# Altium schematic symbol library MS IMP Library.SchLib: 375 symbols (part 1 of 9)
Pins are listed as number, name and electrical type; pins without a type are passive.

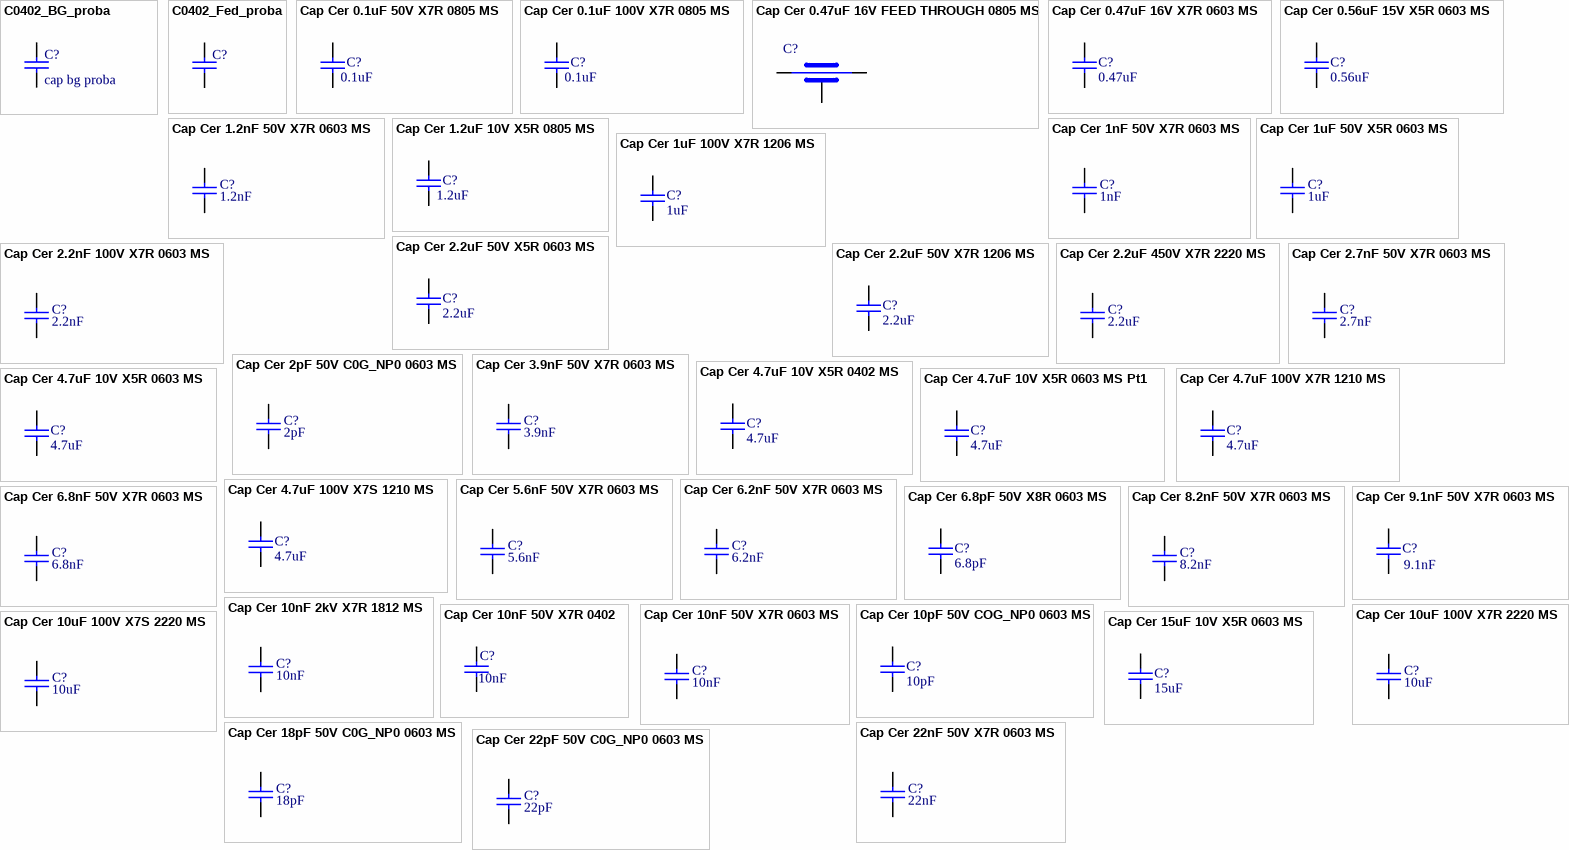
[diagram p0: symbols C0402_BG_proba to Cap Cer 22pF 50V C0G_NP0 0603 MS]

## C0402_BG_proba
designator C?, comment cap bg proba
footprint C0402_BG_proba
pins: 1, 2

## C0402_Fed_proba
designator C?, comment cap fed proba  (value not drawn)
footprint C0402_Fed_proba
pins: 1, 2

## Cap Cer 0.1uF 50V X7R 0805 MS
designator C?, comment Capacitance: 0.1uF  (hidden comment: Ceramic Capacitor)
Ceramic Capacitor 0.1uF 50V X7R 0805; Manufacturer: Yageo; Manufacturer Part Number: CC0805MRX7R9BB104; Tolerance: ±20%; Production Status: Active; Distributor: Digi-Key; Distributor Part Number: 311-4351-1-ND; Last Revision Date: 11.07.2021; Temperature Range: -55°C ~ +125°C; Mounting: SMD; ComponentLink1Description: Datasheet; ComponentLink1URL: https://www.yageo.com/upload/media/product/productsearch/datasheet/mlcc/UPY-GPHC_X7R_6.3V-to-50V_20.pdf; ComponentLink2Description: Distributor; ComponentLink2URL: https://www.digikey.com/en/products/detail/yageo/CC0805MRX7R9BB104/5884281; ComponentLink3Description: Manufacturer; ComponentLink3URL: https://www.yageo.com/en/ProductSearch/PartNumberSearch?part_number=CC0805MRX7R9BB104; Status: Not Checked; Voltage: 50V; Dielectric: X7R; ComponentLink4Description: Charts; ComponentLink4URL: https://www.yageo.com/en/Chart/Index/CC0805MRX7R9BB104; DB Parameter 1: 0.1uF; DB Parameter 2: 50V; DB Parameter 3: X7R
footprint 0805 C 1.27mm MS (Capacitor 0805 1.27mm)
pins: 1, 2

## Cap Cer 0.1uF 100V X7R 0805 MS
designator C?, comment Capacitance: 0.1uF  (hidden comment: Ceramic Capacitor)
Ceramic Capacitor 0.1uF 100V X7R 0805; Manufacturer: TDK; Manufacturer Part Number: C2012X7R2A104K125AA; Tolerance: ±10%; Production Status: Active; Distributor: Mouser; Distributor Part Number: 810-C2012X7R2A104K; Last Revision Date: 06.12.2021; Temperature Range: -55°C ~ +125°C; Mounting: SMD; ComponentLink1Description: Datasheet; ComponentLink1URL: https://product.tdk.com/system/files/dam/doc/product/capacitor/ceramic/mlcc/catalog/mlcc_commercial_midvoltage_en.pdf; ComponentLink2Description: Distributor; ComponentLink2URL: https://eu.mouser.com/ProductDetail/TDK/C2012X7R2A104K125AA?qs=NRhsANhppD9J0ZsT2%2Fo%2F7Q%3D%3D; ComponentLink3Description: Manufacturer; ComponentLink3URL: https://product.tdk.com/en/search/list#part_no=C2012X7R2A104K125AA&_l=20&_p=1&_c=part_no-part_no&_d=0; Status: Not Checked; Voltage: 100V; Dielectric: X7R; ComponentLink4Description: Charts; ComponentLink4URL: https://product.tdk.com/system/files/dam/doc/product/capacitor/ceramic/mlcc/charasheet/c2012x7r2a104k125aa.pdf; DB Parameter 1: 0.1uF; DB Parameter 2: 100V; DB Parameter 3: X7R
footprint 0805 C 1.27mm MS (Capacitor 0805 1.27mm)
pins: 1, 2

## Cap Cer 0.47uF 16V FEED THROUGH 0805 MS
designator C?, comment Ceramic Capacitor  (value not drawn)
CAP FEEDTHRU 0.47UF 20% 16V 2A 0805; Manufacturer: Murata Electronics; Manufacturer Part Number: NFM21PC474R1C3D; DB Parameter 1: 0.1uF; Production Status: Active; Distributor: Digi-Key; Distributor Part Number: 490-2537-1-ND; Last Revision Date: 12.07.2021; Temperature Range: -55°C ~ +125°C; Mounting: SMD; ComponentLink1Description: Datasheet; ComponentLink1URL: https://www.murata.com/en-global/products/productdetail?partno=NFM21PC474R1C3%23; ComponentLink2Description: Distributor; ComponentLink2URL: https://www.digikey.com/en/products/detail/murata-electronics/NFM21PC474R1C3D/599929; ComponentLink3Description: Manufacturer; ComponentLink3URL: https://www.murata.com/en-global/products/productdetail?partno=NFM21PC474R1C3%23; Status: Not Checked; Voltage: 16V; Tolerance: ±20%; Rated Current: 2A; ComponentLink4Description: Charts; ComponentLink4URL: https://www.murata.com/en-global/products/productdetail?partno=NFM21PC474R1C3%23; DB Parameter 2: 16V; DB Parameter 3: 2A
footprint NFM21PC
pins: 1, 2, 3 GND (power)

## Cap Cer 0.47uF 16V X7R 0603 MS
designator C?, comment DB Parameter 1: 0.47uF  (hidden comment: Ceramic Capacitor)
Ceramic Capacitor 0.47uF 16V X7R 0603; Manufacturer: TDK Corporation; Manufacturer Part Number: C1608X7R1C474K080AC; Tolerance: ±10%; Production Status: Active; Distributor: Digi-Key; Distributor Part Number: 445-5192-1-ND; Last Revision Date: 14.09.2021; Temperature Range: -55°C ~ +125°C; Mounting: SMD; ComponentLink1Description: Datasheet; ComponentLink1URL: https://product.tdk.com/en/search/capacitor/ceramic/mlcc/info?part_no=C1608X7R1C474K080AC; ComponentLink2Description: Distributor; ComponentLink2URL: https://www.digikey.com/en/products/detail/tdk-corporation/C1608X7R1C474K080AC/699790; ComponentLink3Description: Manufacturer; ComponentLink3URL: https://product.tdk.com/en/search/capacitor/ceramic/mlcc/info?part_no=C1608X7R1C474K080AC; Status: Not Checked; Voltage: 16V; Dielectric: X7R; ComponentLink4Description: Charts; ComponentLink4URL: https://product.tdk.com/en/search/capacitor/ceramic/mlcc/info?part_no=C1608X7R1C474K080AC; Capacitance: 0.47uF; DB Parameter 2: 16V; DB Parameter 3: X7R
footprint C0603L 0.8 MM MS (Chip Capacitor, Body 1.6x0.8mm, IPC High Density)
pins: 1, 2

## Cap Cer 0.56uF 15V X5R 0603 MS
designator C?, comment DB Parameter 1: 0.56uF  (hidden comment: Ceramic Capacitor)
Ceramic Capacitor 0.56uF 16V X5R 0603; Manufacturer: KEMET; Manufacturer Part Number: C0603C564K4PACTU; Tolerance: ±10%; Production Status: Active; Distributor: Mouser; Distributor Part Number: 399-C0603C564K4PACTUCT-ND; Last Revision Date: 20.06.2021; Temperature Range: -55°C ~ +85°C; Mounting: SMD; ComponentLink1Description: Datasheet; ComponentLink1URL: https://content.kemet.com/datasheets/KEM_C1006_X5R_SMD.pdf; ComponentLink2Description: Distributor; ComponentLink2URL: https://www.digikey.com/en/products/detail/kemet/C0603C564K4PACTU/2201018; ComponentLink3Description: Manufacturer; ComponentLink3URL: https://www.kemet.com/en/us/capacitors/ceramic/product/C0603C564K4PACTU.html; Status: Not Checked; Voltage: 16V; Dielectric: X5R; ComponentLink4Description: Charts; ComponentLink4URL: https://connect.kemet.com:7667/gateway/IntelliData-ComponentDocumentation/1.0/download/specsheet/C0603C564K4PACTU; Capacitance: 0.56uF; DB Parameter 2: 16V; DB Parameter 3: X5R
footprint C0603L 0.8 MM MS (Chip Capacitor, Body 1.6x0.8mm, IPC High Density)
pins: 1, 2

## Cap Cer 1.2nF 50V X7R 0603 MS
designator C?, comment Capacitance: 1.2nF  (hidden comment: Ceramic Capacitor)
Ceramic Capacitor 1.2nF 50V X7R 0603; Manufacturer: Yageo; Manufacturer Part Number: CC0603KRX7R9BB122; Tolerance: ±10%; Production Status: Active; Distributor: Mouser; Distributor Part Number: 603-CC603KRX7R9BB122; Last Revision Date: 122.2021; Temperature Range: -55°C ~ +125°C; Mounting: SMD; ComponentLink1Description: Datasheet; ComponentLink1URL: https://eu.mouser.com/datasheet/2/447/UPY_GPHC_X7R_6_3V_to_50V_20-1995650.pdf; ComponentLink2Description: Distributor; ComponentLink2URL: https://eu.mouser.com/ProductDetail/YAGEO/CC0603KRX7R9BB122?qs=AgBp2OyFlx%252BTtqkLUkrWxQ%3D%3D; ComponentLink3Description: Manufacturer; ComponentLink3URL: https://www.yageo.com/en/ProductSearch/PartNumberSearch?part_number=CC0603KRX7R9BB122; Status: Not Checked; Voltage: 50V; Dielectric: X7R; ComponentLink4Description: Charts; ComponentLink4URL: https://www.yageo.com/en/Chart/Index/CC0603KRX7R9BB122; DB Parameter 1: 1.2nF; DB Parameter 2: 50V; DB Parameter 3: X7R
footprint C0603L 0.8 MM MS (Chip Capacitor, Body 1.6x0.8mm, IPC High Density)
pins: 1, 2

## Cap Cer 1.2uF 10V X5R 0805 MS
designator C?, comment Capacitance: 1.2uF  (hidden comment: Ceramic Capacitor)
Ceramic Capacitor 1.2uF 10V X5R 0805; Manufacturer: Kemet; Manufacturer Part Number: C0805C125K8PACTU; Tolerance: ±10%; Production Status: Active; Distributor: Mouser; Distributor Part Number: 80-C0805C125K8P; Last Revision Date: 22.12.2021; Temperature Range: -55°C ~ +125°C; Mounting: SMD; ComponentLink1Description: Datasheet; ComponentLink1URL: https://connect.kemet.com:7667/gateway/IntelliData-ComponentDocumentation/1.0/download/datasheet/C0805C125K8PACTU.pdf; ComponentLink2Description: Distributor; ComponentLink2URL: https://eu.mouser.com/ProductDetail/KEMET/C0805C125K8PACTU?qs=jbRM9o5BbzPSBD7r88e4HA%3D%3D; ComponentLink3Description: Manufacturer; ComponentLink3URL: https://www.kemet.com/en/us/capacitors/ceramic/product/C0805C125K8PACTU.html; Status: Not Checked; Voltage: 10V; Dielectric: X5R; ComponentLink4Description: Charts; ComponentLink4URL: https://connect.kemet.com:7667/gateway/IntelliData-ComponentDocumentation/1.0/download/specsheet/C0805C125K8PACTU; DB Parameter 1: 1.2uF; DB Parameter 2: 10V; DB Parameter 3: X5R
footprint 0805 C 1.27mm MS (Capacitor 0805 1.27mm)
pins: 1, 2

## Cap Cer 1nF 50V X7R 0603 MS
designator C?, comment Capacitance: 1nF  (hidden comment: Ceramic Capacitor)
Ceramic Capacitor 1nF 50V X7R 0603; Manufacturer: KEMET; Manufacturer Part Number: C0603C102J5RAC; Tolerance: ±5%; Production Status: Active; Distributor: Mouser; Distributor Part Number: 80-C0603C102J5RAC; Last Revision Date: 02.12.2021; Temperature Range: -55°C ~ +125°C; Mounting: SMD; ComponentLink1Description: Datasheet; ComponentLink1URL: https://content.kemet.com/datasheets/KEM_C1002_X7R_SMD.pdf; ComponentLink2Description: Distributor; ComponentLink2URL: https://eu.mouser.com/ProductDetail/KEMET/C0603C102J5RAC?qs=sGAEpiMZZMuMW9TJLBQkXuRw8EikU0MTMjA2fQQrrXI%3D; ComponentLink3Description: Manufacturer; ComponentLink3URL: https://www.kemet.com/en/us/capacitors/ceramic/product/C0603C102J5RACTU.html; Status: Not Checked; Voltage: 50V; Dielectric: X7R; ComponentLink4Description: Charts; ComponentLink4URL: https://www.kemet.com/en/us/capacitors/ceramic/product/C0603C102J5RACTU.html; DB Parameter 1: 1nF; DB Parameter 2: 50V; DB Parameter 3: X7R
footprint C0603L 0.8 MM MS (Chip Capacitor, Body 1.6x0.8mm, IPC High Density)
pins: 1, 2

## Cap Cer 1uF 50V X5R 0603 MS
designator C?, comment Capacitance: 1uF  (hidden comment: Ceramic Capacitor)
Ceramic Capacitor 1uF 50V X5R 0603; Manufacturer: Taiyo Yuden; Manufacturer Part Number: UMK107BJ105KA-T; Tolerance: ±10%; Production Status: Active; Distributor: Digi-Key; Distributor Part Number: 587-2400-1-ND; Last Revision Date: 07.04.2021; Temperature Range: -55°C ~ +85°C; Mounting: SMD; ComponentLink1Description: Datasheet; ComponentLink1URL: https://ds.yuden.co.jp/TYCOMPAS/ut/detail?pn=UMK107BJ105KA-T%20%20&u=M; ComponentLink2Description: Distributor; ComponentLink2URL: https://www.digikey.com/en/products/detail/taiyo-yuden/UMK107BJ105KA-T/2178919; ComponentLink3Description: Manufacturer; ComponentLink3URL: https://ds.yuden.co.jp/TYCOMPAS/ut/detail?pn=UMK107BJ105KA-T%20%20&u=M; Status: Not Checked; Voltage: 50V; Dielectric: X5R; ComponentLink4Description: Charts; ComponentLink4URL: https://ds.yuden.co.jp/TYCOMPAS/ut/detail?pn=UMK107BJ105KA-T%20%20&u=M; DB Parameter 1: 1uF; DB Parameter 2: 50V; DB Parameter 3: X5R
footprint C0603L 0.8 MM MS (Chip Capacitor, Body 1.6x0.8mm, IPC High Density)
pins: 1, 2

## Cap Cer 1uF 100V X7R 1206 MS
designator C?, comment DB Parameter 1: 1uF  (hidden comment: Ceramic Capacitor)
Ceramic Capacitor 1UF 100V X7R 1206; Manufacturer: Samsung Electro-Mechanics; Manufacturer Part Number: CL31B105KCHNNNE; Tolerance: ±10%; Production Status: Active; Distributor: Digi-Key; Distributor Part Number: 1276-1838-1-ND; Last Revision Date: 04.02.2021; Temperature Range: -55°C ~ +125°C; Mounting: SMD; ComponentLink1Description: Datasheet; ComponentLink1URL: http://weblib.samsungsem.com/mlcc/mlcc-ec-data-sheet.do?partNumber=CL31B105KCHNNN; ComponentLink2Description: Distributor; ComponentLink2URL: https://www.digikey.com/en/products/detail/samsung-electro-mechanics/CL31B105KCHNNNE/3887496; ComponentLink3Description: Manufacturer; ComponentLink3URL: http://product.samsungsem.com/mlcc/CL31B105KCHNNN.do; Status: Not Checked; Voltage: 100V; Dielectric: X7R; ComponentLink4Description: Charts; ComponentLink4URL: http://weblib.samsungsem.com/mlcc/mlcc-ec-data-sheet.do?partNumber=CL31B105KCHNNN; Capacitance: 1uF; DB Parameter 2: 100V; DB Parameter 3: X7R
footprint 1206 C 1.80mm (Ceramic Capacitor 1206 1.80mm)
pins: 1, 2

## Cap Cer 2.2nF 100V X7R 0603 MS
designator C?, comment Capacitance: 2.2nF  (hidden comment: Ceramic Capacitor)
Ceramic Capacitor 2.2nF 100V X7R 0603; Manufacturer: TDK Corporation; Manufacturer Part Number: CGA3E2X7R2A222K080AA; Tolerance: ±10%; Distributor: Digi-Key; Distributor Part Number: 445-5808-1-ND; Last Revision Date: 02.04.2021; Temperature Range: -55°C ~ +125°C; Mounting: SMD; ComponentLink1Description: Datasheet; ComponentLink1URL: https://product.tdk.com/en/system/files?file=dam/doc/product/capacitor/ceramic/mlcc/catalog/mlcc_automotive_midvoltage_en.pdf; ComponentLink2Description: Distributor; ComponentLink2URL: https://www.digikey.com/en/products/detail/tdk-corporation/CGA3E2X7R2A222K080AA/2443286; ComponentLink3Description: Manufacturer; ComponentLink3URL: https://product.tdk.com/en/search/capacitor/ceramic/mlcc/info?part_no=CGA3E2X7R2A222K080AA; Status: Not Checked; Voltage: 100V; Dielectric: X7R; ComponentLink4Description: Charts; ComponentLink4URL: https://product.tdk.com/en/system/files?file=dam/doc/product/capacitor/ceramic/mlcc/charasheet/cga3e2x7r2a222k080aa.pdf; DB Parameter 1: 2.2nF; DB Parameter 2: 100V; DB Parameter 3: X7R
footprint C0603L 0.8 MM MS (Chip Capacitor, Body 1.6x0.8mm, IPC High Density)
pins: 1, 2

## Cap Cer 2.2uF 50V X5R 0603 MS
designator C?, comment DB Parameter 1: 2.2uF  (hidden comment: Ceramic Capacitor)
Ceramic Capacitor 2.2UF 50V X5R 0603; Manufacturer: Taiyo Yuden; Manufacturer Part Number: UMK107BBJ225MA-T; Tolerance: ±20%; Production Status: Active; Distributor: Digi-Key; Distributor Part Number: 587-6298-1-ND; Last Revision Date: 06.04.2021; Temperature Range: -55°C ~ +85°C; Mounting: SMD; ComponentLink1Description: Datasheet; ComponentLink1URL: https://ds.yuden.co.jp/TYCOMPAS/or/detail?pn=UMK107BBJ225MA-T&u=M; ComponentLink2Description: Distributor; ComponentLink2URL: https://www.digikey.be/products/en?keywords=587-6298-1-ND; ComponentLink3Description: Manufacturer; ComponentLink3URL: https://ds.yuden.co.jp/TYCOMPAS/or/detail?pn=UMK107BBJ225MA-T&u=M; Status: Not Checked; Voltage: 50V; Dielectric: X5R; ComponentLink4Description: Charts; ComponentLink4URL: https://ds.yuden.co.jp/TYCOMPAS/or/detail?pn=UMK107BBJ225MA-T&u=M; Capacitance: 2.2uF; DB Parameter 2: 50V; DB Parameter 3: X5R
footprint C0603L 0.8 MM MS (Chip Capacitor, Body 1.6x0.8mm, IPC High Density)
pins: 1, 2

## Cap Cer 2.2uF 50V X7R 1206 MS
designator C?, comment DB Parameter 1: 2.2uF  (hidden comment: Ceramic Capacitor)
Ceramic Capacitor 2.2UF 50V X7R 1206; Manufacturer: Samsung Electro-Mechanics; Manufacturer Part Number: CL31B225KBHNNNE; Tolerance: ±10%; Production Status: Active; Distributor: Digi-Key; Distributor Part Number: 1276-1291-1-ND; Last Revision Date: 04.02.2021; Temperature Range: -55°C ~ +125°C; Mounting: SMD; ComponentLink1Description: Datasheet; ComponentLink1URL: http://product.samsungsem.com/mlcc/CL31B225KBHNNN.do; ComponentLink2Description: Distributor; ComponentLink2URL: https://www.digikey.be/product-detail/en/samsung-electro-mechanics/CL31B225KBHNNNE/1276-1291-1-ND/3889377; ComponentLink3Description: Manufacturer; ComponentLink3URL: http://product.samsungsem.com/mlcc/CL31B225KBHNNN.do; Status: Not Checked; Voltage: 50V; Dielectric: X7R; ComponentLink4Description: Charts; ComponentLink4URL: http://product.samsungsem.com/mlcc/CL31B225KBHNNN.do; Capacitance: 2.2uF; DB Parameter 2: 50V; DB Parameter 3: X7R
footprint 1206 C 1.80mm MS (Ceramic Capacitor 1206 1.80mm)
pins: 1, 2

## Cap Cer 2.2uF 450V X7R 2220 MS
designator C?, comment Capacitance: 2.2uF  (hidden comment: Ceramic Capacitor)
Ceramic Capacitor 2.2uF 100V X6S 2220; Manufacturer: TDK Corporation; Manufacturer Part Number: C5750X6S2W225K250KA; Voltage: 450V; Tolerance: ±20%; Production status: Active; Distributor: Digi-Key; Distributor Part Number: 445-7781-1-ND; Last Revision Date: 09.03.2021; Temperature Range: -55°C ~ +125°C; Mounting: SMD; ComponentLink1Description: Datasheet; ComponentLink1URL: https://product.tdk.com/info/en/documents/chara_sheet/C5750X6S2W225K250KA.pdf; ComponentLink2Description: Distributor; ComponentLink2URL: https://www.digikey.com/en/products/detail/tdk-corporation/C5750X6S2W225K250KA/2733216?s=N4IgTCBcDaIMIFYDsCAMANAbAZTAdTDAQGkjViBBEAXQF8g; ComponentLink3Description: Manufacturer; ComponentLink3URL: https://product.tdk.com/en/search/capacitor/ceramic/mlcc/info?part_no=C5750X6S2W225K250KA; Status: Not Checked; Dielectric: X6S; ComponentLink4Description: Specsheet; ComponentLink4URL: https://product.tdk.com/info/en/documents/chara_sheet/C5750X6S2W225K250KA.pdf; DB Parameter 1: 2.2uF; DB Parameter 2: 450V; DB Parameter 3: X6S
footprint 2220 C 2.8MM MS (2220 C LeadFrame DoubleStacked)
pins: 1, 2

## Cap Cer 2.7nF 50V X7R 0603 MS
designator C?, comment Capacitance: 2.7nF  (hidden comment: Ceramic Capacitor)
Ceramic Capacitor 2.7nF 50V X7R 0603; Manufacturer: Yageo; Manufacturer Part Number: CC0603KRX7R9BB272; Tolerance: ±10%; Distributor: Mouser; Distributor Part Number: 603-CC603KRX7R9BB272; Last Revision Date: 16.11.2021; Temperature Range: -55°C ~ +125°C; Mounting: SMD; ComponentLink1Description: Datasheet; ComponentLink1URL: https://eu.mouser.com/datasheet/2/447/UPY_GPHC_X7R_6_3V_to_50V_20-1995650.pdf; ComponentLink2Description: Distributor; ComponentLink2URL: https://eu.mouser.com/ProductDetail/YAGEO/CC0603KRX7R9BB272?qs=%2Fha2pyFaduh%252BUOWCkAJwPFQOH4ZvcaoHrPjTM4lg5iN9UFDSpNlu2g%3D%3D; ComponentLink3Description: Manufacturer; ComponentLink3URL: https://www.yageo.com/en/ProductSearch/PartNumberSearch?part_number=CC0603KRX7R9BB272; Status: Not Checked; Voltage: 50V; Dielectric: X7R; ComponentLink4Description: Charts; ComponentLink4URL: https://www.yageo.com/en/Chart/Index/CC0603KRX7R9BB272; DB Parameter 1: 2.7nF; DB Parameter 2: 50V; DB Parameter 3: X7R
footprint C0603L 0.8 MM MS (Chip Capacitor, Body 1.6x0.8mm, IPC High Density)
pins: 1, 2

## Cap Cer 2pF 50V C0G_NP0 0603 MS
designator C?, comment Capacitance: 2pF  (hidden comment: Ceramic Capacitor)
Ceramic Capacitor 2pF 50V C0G_NP0 0603; Manufacturer: Yageo; Manufacturer Part Number: CC0603CRNPO9BN2R0; Tolerance: ±12.5%; Dielectric: C0G, NP0; Production Status: Active; Distributor: Digi-Key; Distributor Part Number: 311-1051-1-ND; Last Revision Date: 07.06.2021; Temperature Range: -55°C ~ +125°C; Mounting: SMD; ComponentLink1Description: Datasheet; ComponentLink1URL: https://www.yageo.com/upload/media/product/productsearch/datasheet/mlcc/UPY-GP_NP0_16V-to-50V_18.pdf; ComponentLink2Description: Distributor; ComponentLink2URL: https://www.digikey.com/en/products/detail/yageo/CC0603CRNPO9BN2R0/302785; ComponentLink3Description: Manufacturer; ComponentLink3URL: https://www.yageo.com/en/ProductSearch/PartNumberSearch?part_number=CC0603CRNPO9BN2R0; Status: Not Checked; Voltage: 50V; ComponentLink4Description: Charts; ComponentLink4URL: https://www.yageo.com/en/Chart/Index/CC0603CRNPO9BN2R0#chart_cap_freq; DB Parameter 1: 2pF; DB Parameter 2: 50V; DB Parameter 3: C0G, NP0
footprint C0603L 0.8 MM MS (Chip Capacitor, Body 1.6x0.8mm, IPC High Density)
pins: 1, 2

## Cap Cer 3.9nF 50V X7R 0603 MS
designator C?, comment Capacitance: 3.9nF  (hidden comment: Ceramic Capacitor)
Ceramic Capacitor 3.9nF 50V X7R 0603; Manufacturer: Vishay / Vitramon; Manufacturer Part Number: VJ0603Y392KXACW1BC; Tolerance: ±10%; Distributor: Mouser; Distributor Part Number: 77-VJ0603Y392KXACBC; Last Revision Date: 16.11.2021; Temperature Range: -55°C ~ +125°C; Mounting: SMD; ComponentLink1Description: Datasheet; ComponentLink1URL: https://eu.mouser.com/datasheet/2/427/vjw1bcbascomseries-1762447.pdf; ComponentLink2Description: Distributor; ComponentLink2URL: https://eu.mouser.com/ProductDetail/Vishay/VJ0603Y392KXACW1BC?qs=sGAEpiMZZMsxiS4eJwGuBrhlZ2bMUtwz; ComponentLink3Description: Manufacturer; ComponentLink3URL: https://eu.mouser.com/datasheet/2/427/vjw1bcbascomseries-1762447.pdf; Status: Not Checked; Voltage: 50V; Dielectric: X7R; ComponentLink4Description: Charts; ComponentLink4URL: https://eu.mouser.com/datasheet/2/427/vjw1bcbascomseries-1762447.pdf; DB Parameter 1: 3.9nF; DB Parameter 2: 50V; DB Parameter 3: X7R
footprint C0603L 0.8 MM MS (Chip Capacitor, Body 1.6x0.8mm, IPC High Density)
pins: 1, 2

## Cap Cer 4.7uF 10V X5R 0402 MS
designator C?, comment DB Parameter 1: 4.7uF  (hidden comment: Ceramic Capacitor)
Ceramic Capacitor 4.7uF 10V X5R 0402; Manufacturer: Samsung Electro-Mechanics; Manufacturer Part Number: CL05A475MP5NRNC; Tolerance: ±20%; Production Status: Active; Distributor: Digi-Key; Distributor Part Number: 1276-1482-1-ND; Last Revision Date: 30.10.2020.; Temperature Range: -55°C ~ +85°C; Mounting: SMD; ComponentLink1Description: Datasheet; ComponentLink1URL: https://media.digikey.com/pdf/Data%20Sheets/Samsung%20PDFs/CL_Series_MLCC_ds.pdf; ComponentLink2Description: Distributor; ComponentLink2URL: https://www.digikey.com/en/products/detail/samsung-electro-mechanics/CL05A475MP5NRNC/3887140; ComponentLink3Description: Manufacturer; ComponentLink3URL: http://product.samsungsem.com/mlcc/basic-search.do; Status: Not Checked; Voltage: 10V; Dielectric: X5R; ComponentLink4Description: Charts; ComponentLink4URL: https://media.digikey.com/pdf/Data%20Sheets/Samsung%20PDFs/CL05A475MP5NRNC_Char.pdf; Capacitance: 4.7uF; DB Parameter 2: 10V; DB Parameter 3: X5R
footprint C0402 Fed MS
pins: 1, 2

## Cap Cer 4.7uF 10V X5R 0603 MS
designator C?, comment DB Parameter 1: 4.7uF  (hidden comment: Ceramic Capacitor)
Ceramic Capacitor 4.7uF 10V X5R 0603; Manufacturer: Samsung Electro-Mechanics; Manufacturer Part Number: CL10A475KP8NNNC; Tolerance: ±10%; Production Status: Active; Distributor: Mouser; Distributor Part Number: 187-CL10A475KP8NNNC; Last Revision Date: 19.10.2020.; Temperature Range: -55°C ~ +85°C; Mounting: SMD; ComponentLink1Description: Datasheet; ComponentLink1URL: https://eu.mouser.com/datasheet/2/585/MLCC-1837944.pdf; ComponentLink2Description: Distributor; ComponentLink2URL: https://eu.mouser.com/ProductDetail/Samsung-Electro-Mechanics/CL10A475KP8NNNC?qs=hqM3L16%252BxlfQRmkWsZz5vA%3D%3D; ComponentLink3Description: Manufacturer; ComponentLink3URL: http://product.samsungsem.com/mlcc/basic-search.do?partNumber=CL10A475KP8NNN; Status: Not Checked; Voltage: 10V; Dielectric: X5R; ComponentLink4Description: Charts; ComponentLink4URL: http://weblib.samsungsem.com/mlcc/mlcc-ec-data-sheet.do?partNumber=CL10A475KP8NNN; Capacitance: 4.7uF; DB Parameter 2: 10V; DB Parameter 3: X5R
footprint C0603L 0.8 MM MS (Chip Capacitor, Body 1.6x0.8mm, IPC High Density)
pins: 1, 2

## Cap Cer 4.7uF 10V X5R 0603 MS Pt1
designator C?, comment DB Parameter 1: 4.7uF  (hidden comment: Ceramic Capacitor)
Ceramic Capacitor 4.7uF 10V X5R 0603; Manufacturer: Taiyo Yuden; Manufacturer Part Number: LMK107BJ475MAHT; Tolerance: ±20%; Production Status: Active; Distributor: Mouser; Distributor Part Number: 963-LMK107BJ475MAHT; Last Revision Date: 09.06.2022; Temperature Range: -55°C ~ +85°C; Mounting: SMD; ComponentLink1Description: Datasheet; ComponentLink1URL: https://ds.yuden.co.jp/TYCOMPAS/or/detail?pn=MCASL168SB5475MTNA01&u=M; ComponentLink2Description: Distributor; ComponentLink2URL: https://eu.mouser.com/ProductDetail/Taiyo-Yuden/LMK107BJ475MAHT?qs=vF%252B8ahGVile95bhfG0202g%3D%3D; ComponentLink3Description: Manufacturer; ComponentLink3URL: https://ds.yuden.co.jp/TYCOMPAS/or/detail?pn=MCASL168SB5475MTNA01&u=M; Status: Not Checked; Voltage: 10V; Dielectric: X5R; ComponentLink4Description: Charts; ComponentLink4URL: https://ds.yuden.co.jp/TYCOMPAS/or/detail?pn=MCASL168SB5475MTNA01&u=M; Capacitance: 4.7uF; DB Parameter 2: 10V; DB Parameter 3: X5R
footprint C0603L 0.8 MM MS (Chip Capacitor, Body 1.6x0.8mm, IPC High Density)
pins: 1, 2

## Cap Cer 4.7uF 100V X7R 1210 MS
designator C?, comment DB Parameter 1: 4.7uF  (hidden comment: Ceramic Capacitor)
Ceramic Capacitor 4.7uF 100V X7R 1210; Manufacturer: AVX Corporation; Manufacturer Part Number: 12101C475K4Z2A; Tolerance: ±10%; Production Status: Active; Distributor: Digi_Key; Distributor Part Number: 478-12101C475K4Z2ACT-ND; Last Revision Date: 10.03.2021; Temperature Range: -55°C ~ +125°C; Mounting: SMD; ComponentLink1Description: Datasheet; ComponentLink1URL: https://datasheets.avx.com/FlexitermMLCC.pdf; ComponentLink2Description: Distributor; ComponentLink2URL: https://www.digikey.com/en/products/detail/avx-corporation/12101C475K4Z2A/9748485?s=N4IgTCBcDaIIxjgBjgYQCwHYCsBpdAWmAIIgC6AvkA; ComponentLink3Description: Manufacturer; ComponentLink3URL: https://spicat.avx.com/product/mlcc/chartview/12101C475K4Z2A; Status: Not Checked; Voltage: 100V; Dielectric: X7R; ComponentLink4Description: Charts; ComponentLink4URL: https://spicat.avx.com/product/mlcc/chartview/12101C475K4Z2A; Capacitance: 4.7uF; DB Parameter 2: 100V; DB Parameter 3: X7R
footprint 1210 C 1.80mm MS (Ceramic Capacitor 1210 1.80mm)
pins: 1, 2

## Cap Cer 4.7uF 100V X7S 1210 MS
designator C?, comment DB Parameter 1: 4.7uF  (hidden comment: Ceramic Capacitor)
Ceramic Capacitor 4.7uF 100V X7S 1210; Manufacturer: Taiyo Yuden; Manufacturer Part Number: HMK325C7475KN-TE; Tolerance: ±10%; Production Status: Active; Distributor: Digi_Key; Distributor Part Number: 587-5038-1-ND; Last Revision Date: 22.07.2021; Temperature Range: -55°C ~ +125°C; Mounting: SMD; ComponentLink1Description: Datasheet; ComponentLink1URL: https://www.yuden.co.jp/productdata/catalog/mlcc06_e.pdf; ComponentLink2Description: Distributor; ComponentLink2URL: https://www.digikey.com/en/products/detail/taiyo-yuden/HMK325C7475KN-TE/6563631; ComponentLink3Description: Manufacturer; ComponentLink3URL: https://ds.yuden.co.jp/TYCOMPAS/ut/detail?pn=HMK325C7475KN-TE&u=M; Status: Not Checked; Voltage: 100V; Dielectric: X7S; ComponentLink4Description: Charts; ComponentLink4URL: https://ds.yuden.co.jp/TYCOMPAS/ut/detail?pn=HMK325C7475KN-TE&u=M; Capacitance: 4.7uF; DB Parameter 2: 100V; DB Parameter 3: X7S
footprint 1210 C 1.80mm MS (Ceramic Capacitor 1210 1.80mm)
pins: 1, 2

## Cap Cer 5.6nF 50V X7R 0603 MS
designator C?, comment Capacitance: 5.6nF  (hidden comment: Ceramic Capacitor)
Ceramic Capacitor 5.6nF 50V X7R 0603; Manufacturer: Samsung Electro-Mechanics; Manufacturer Part Number: CL10B562KB8NNNC; Tolerance: ±10%; Production Status: Active; Distributor: Mouser; Distributor Part Number: 187-CL10B562KB8NNNC; Last Revision Date: 26.04.2022; Temperature Range: -55°C ~ +125°C; Mounting: SMD; ComponentLink1Description: Datasheet; ComponentLink1URL: http://product.samsungsem.com/mlcc/basic-search.do?partNumber=CL10B562KB8NNN; ComponentLink2Description: Distributor; ComponentLink2URL: https://eu.mouser.com/ProductDetail/Samsung-Electro-Mechanics/CL10B562KB8NNNC?qs=hqM3L16%252BxlfcKMBSq0Duxw%3D%3D; ComponentLink3Description: Manufacturer; ComponentLink3URL: http://product.samsungsem.com/mlcc/basic-search.do?partNumber=CL10B562KB8NNN; Status: Not Checked; Voltage: 50V; Dielectric: X7R; ComponentLink4Description: Charts; ComponentLink4URL: http://weblib.samsungsem.com/mlcc/mlcc-ec-data-sheet.do?partNumber=CL10B562KB8NNN; DB Parameter 1: 5.6nF; DB Parameter 2: 50V; DB Parameter 3: X7R
footprint C0603L 0.8 MM MS (Chip Capacitor, Body 1.6x0.8mm, IPC High Density)
pins: 1, 2

## Cap Cer 6.2nF 50V X7R 0603 MS
designator C?, comment Capacitance: 6.2nF  (hidden comment: Ceramic Capacitor)
Ceramic Capacitor 6.2nF 50V X7R 0603; Manufacturer: Murata Electronics; Manufacturer Part Number: GRM1885C1H622JA01D; Tolerance: ±5%; Dielectric: C0G_NP0; Production Status: Active; Distributor: Mouser; Distributor Part Number: 81-GRM1885C1H622JA1D; Last Revision Date: 20.09.2022; Temperature Range: -55°C ~ +125°C; Mounting: SMD; ComponentLink1Description: Datasheet; ComponentLink1URL: https://eu.mouser.com/datasheet/2/281/1/GRM1885C1H622JA01_01A-1984917.pdf; ComponentLink2Description: Distributor; ComponentLink2URL: https://eu.mouser.com/ProductDetail/Murata-Electronics/GRM1885C1H622JA01D?qs=ui%252B2d9lVEI4Y0G7Sn0AB8w%3D%3D; ComponentLink3Description: Manufacturer; ComponentLink3URL: https://www.murata.com/en-us/products/productdetail?partno=GRM1885C1H622JA01%23; Status: Not Checked; Voltage: 50V; ComponentLink4Description: Charts; ComponentLink4URL: https://search.murata.co.jp/Ceramy/image/img/A01X/G101/ENG/GRM1885C1H622JA01-01A.pdf; DB Parameter 1: 6.2nF; DB Parameter 2: 50V; DB Parameter 3: C0G_NP0
footprint C0603L 0.8 MM MS (Chip Capacitor, Body 1.6x0.8mm, IPC High Density)
pins: 1, 2

## Cap Cer 6.8nF 50V X7R 0603 MS
designator C?, comment Capacitance: 6.8nF  (hidden comment: Ceramic Capacitor)
Ceramic Capacitor 6.8nF 50V X7R 0603; Manufacturer: Samsung Electro-Mechanics; Manufacturer Part Number: CL10B682KB8WPNC; Tolerance: ±10%; Distributor: Mouser; Distributor Part Number: 187-CL10B682KB8WPNC; Last Revision Date: 16.11.2021; Temperature Range: -55°C ~ +125°C; Mounting: SMD; ComponentLink1Description: Datasheet; ComponentLink1URL: http://weblib.samsungsem.com/mlcc/mlcc-ec-data-sheet.do?partNumber=CL10B682KB8WPN; ComponentLink2Description: Distributor; ComponentLink2URL: https://eu.mouser.com/ProductDetail/Samsung-Electro-Mechanics/CL10B682KB8WPNC?qs=%2Fha2pyFadug1twFwk2Wnk2Vt7E8v7A45fe06n%2FQrFB9HdtGBEQp1bw%3D%3D; ComponentLink3Description: Manufacturer; ComponentLink3URL: http://product.samsungsem.com/mlcc/CL10B682KB8WPN.do; Status: Not Checked; Voltage: 50V; Dielectric: X7R; ComponentLink4Description: Charts; ComponentLink4URL: http://weblib.samsungsem.com/mlcc/mlcc-ec-data-sheet.do?partNumber=CL10B682KB8WPN; DB Parameter 1: 6.8nF; DB Parameter 2: 50V; DB Parameter 3: X7R
footprint C0603L 0.8 MM MS (Chip Capacitor, Body 1.6x0.8mm, IPC High Density)
pins: 1, 2

## Cap Cer 6.8pF 50V X8R 0603 MS
designator C?, comment DB Parameter 1: 6.8pF  (hidden comment: Ceramic Capacitor)
Ceramic Capacitor 6.8pF 50V X8R 0603; Manufacturer: Kemet; Manufacturer Part Number: C0603C689D5HACAUTO; Tolerance: ±10%; Production Status: Active; Distributor: Mouser; Distributor Part Number: 80-C0603C689D5HAUTO; Last Revision Date: 16.11.2021; Temperature Range: -55°C ~ +150°C; Mounting: SMD; ComponentLink1Description: Datasheet; ComponentLink1URL: https://eu.mouser.com/datasheet/2/212/KEM_C1007_X8R_ULTRA_150C_SMD-1102703.pdf; ComponentLink2Description: Distributor; ComponentLink2URL: https://eu.mouser.com/ProductDetail/KEMET/C0603C689D5HACAUTO?qs=%2Fha2pyFadugSBMgZhCLqxQFyM08rPcPaFp0orL5MXO22ASzDdgHxhgeQkMXtjqIG; ComponentLink3Description: Manufacturer; ComponentLink3URL: https://www.kemet.com/en/us/capacitors/ceramic/product/C0603C689D5HACAUTO.html; Status: Not Checked; Voltage: 50V; Dielectric: X8R; ComponentLink4Description: Charts; ComponentLink4URL: https://www.kemet.com/en/us/capacitors/ceramic/product/C0603C689D5HACAUTO.html; Capacitance: 6.8pF; DB Parameter 2: 50V; DB Parameter 3: X8R
footprint C0603L 0.8 MM MS (Chip Capacitor, Body 1.6x0.8mm, IPC High Density)
pins: 1, 2

## Cap Cer 8.2nF 50V X7R 0603 MS
designator C?, comment Capacitance: 8.2nF  (hidden comment: Ceramic Capacitor)
Ceramic Capacitor 8.2nF 50V X7R 0603; Manufacturer: Samsung Electro-Mechanics; Manufacturer Part Number: CL10B822KB8WPNC; Tolerance: ±10%; Distributor: Mouser; Distributor Part Number: 187-CL10B822KB8WPNC; Last Revision Date: 02.12.2021; Temperature Range: -55°C ~ +125°C; Mounting: SMD; ComponentLink1Description: Datasheet; ComponentLink1URL: http://weblib.samsungsem.com/mlcc/mlcc-ec-data-sheet.do?partNumber=CL10B822KB8WPN; ComponentLink2Description: Distributor; ComponentLink2URL: https://eu.mouser.com/ProductDetail/Samsung-Electro-Mechanics/CL10B822KB8WPNC?qs=xZ%2FP%252Ba9zWqaMxWIRNtg9DA%3D%3D; ComponentLink3Description: Manufacturer; ComponentLink3URL: http://product.samsungsem.com/mlcc/basic-search.do?partNumber=CL10B822KB8WPN; Status: Not Checked; Voltage: 50V; Dielectric: X7R; ComponentLink4Description: Charts; ComponentLink4URL: http://weblib.samsungsem.com/mlcc/mlcc-ec-data-sheet.do?partNumber=CL10B822KB8WPN; DB Parameter 1: 8.2nF; DB Parameter 2: 50V; DB Parameter 3: X7R
footprint C0603L 0.8 MM MS (Chip Capacitor, Body 1.6x0.8mm, IPC High Density)
pins: 1, 2

## Cap Cer 9.1nF 50V X7R 0603 MS
designator C?, comment Capacitance: 9.1nF  (hidden comment: Ceramic Capacitor)
Ceramic Capacitor 9.1nF 50V X7R 0603; Manufacturer: Murata; Manufacturer Part Number: GCD188R71H152KA01D; Tolerance: ±10%; Production Status: Active; Distributor: Mouser; Distributor Part Number: 81-GCD188R71H152KA1D; Last Revision Date: 17.10.2022; Temperature Range: -55°C ~ +125°C; Mounting: SMD; ComponentLink1Description: Datasheet; ComponentLink2Description: Distributor; ComponentLink3Description: Manufacturer; Status: Not Checked; Voltage: 50V; Dielectric: X7R; ComponentLink4Description: Charts; DB Parameter 2: 50V; DB Parameter 3: X7R; DB Parameter 1: 9.1nF
footprint C0603L 0.8 MM MS (Chip Capacitor, Body 1.6x0.8mm, IPC High Density)
pins: 1, 2

## Cap Cer 10nF 2kV X7R 1812 MS
designator C?, comment Capacitance: 10nF  (hidden comment: Ceramic Capacitor)
Ceramic Capacitor 10nF 2kV X7R 1812; Manufacturer: KEMET; Manufacturer Part Number: C1812C103KGRACTU; Tolerance: ±10%; Production status: Active; Distributor: Digi-Key; Distributor Part Number: 399-10477-1-ND; Last Revision Date: 12.03.2021; Temperature Range: -55°C ~ +125°C; Mounting: SMD; ComponentLink1Description: Datasheet; ComponentLink1URL: https://content.kemet.com/datasheets/KEM_C1010_X7R_HV_SMD.pdf; ComponentLink2Description: Distributor; ComponentLink2URL: https://www.digikey.com/en/products/detail/kemet/C1812C103KGRACTU/4172884?s=N4IgTCBcDaIMIEYAcCyIAwGYDSBxASgIJwAqAqiALoC%2BQA; ComponentLink3Description: Manufacturer; ComponentLink3URL: https://www.kemet.com/en/us/search.html?q=C1812C103KGRACTU; Status: Not Checked; Voltage: 2kV; Dielectric: X7R; ComponentLink4Description: Specsheet; ComponentLink4URL: https://connect.kemet.com:7667/gateway/IntelliData-ComponentDocumentation/1.0/download/specsheet/C1812C103KGRACTU; DB Parameter 1: 10nF; DB Parameter 2: 2kV; DB Parameter 3: X7R
footprint 1812 C 2.0MM MS (Chip Capacitor, Body 4.5x3.2mm, IPC High Density)
pins: 1, 2

## Cap Cer 10nF 50V X7R 0402
designator C?, comment DB Parameter 1: 10nF  (hidden comment: Ceramic Capacitor)
Ceramic Capacitor 10nF 50V X7R 0402; Manufacturer: Murata Electronics; Manufacturer Part Number: GRM155R71H103KA88D; Tolerance: ±10%; Production Status: Active; Distributor: Digi-Key; Distributor Part Number: 490-4516-1-ND; Last Revision Date: 30.10.2020.; Temperature Range: -55°C ~ +125°C; Mounting: SMD; ComponentLink1Description: Datasheet; ComponentLink1URL: https://search.murata.co.jp/Ceramy/image/img/A01X/G101/ENG/GRM155R71H103KA88-01.pdf; ComponentLink2Description: Distributor; ComponentLink2URL: https://www.digikey.com/en/products/detail/murata-electronics/GRM155R71H103KA88D/1033252?s=N4IgTCBcDaIBwEYC0BxASgWQQVm2g7AgBIIAMAzANICCcAIiALoC%2BQA; ComponentLink3Description: Manufacturer; ComponentLink3URL: https://www.murata.com/en-global/products/productdetail?partno=GRM155R71H103KA88%23; Status: Not Checked; Voltage: 50V; Dielectric: X7R; ComponentLink4Description: Charts; ComponentLink4URL: https://www.murata.com/en-global/products/productdetail?partno=GRM155R71H103KA88%23; Capacitance: 10nF; DB Parameter 2: 50V; DB Parameter 3: X7R
footprint C0402 Fed MS
pins: 1, 2

## Cap Cer 10nF 50V X7R 0603 MS
designator C?, comment Capacitance: 10nF  (hidden comment: Ceramic Capacitor)
Ceramic Capacitor 10nF 50V X7R 0603; Manufacturer: TDK Corporation; Manufacturer Part Number: CGA3E2X7R1H103K080AA; Tolerance: ±10%; Distributor: Digi-Key; Distributor Part Number: 445-5662-1-ND; Last Revision Date: 02.04.202; Temperature Range: -55°C ~ +125°C; Mounting: SMD; ComponentLink1Description: Datasheet; ComponentLink1URL: https://product.tdk.com/en/system/files?file=dam/doc/product/capacitor/ceramic/mlcc/catalog/mlcc_automotive_general_en.pdf; ComponentLink2Description: Distributor; ComponentLink2URL: https://www.digikey.com/en/products/detail/tdk-corporation/CGA3E2X7R1H103K080AA/2443140; ComponentLink3Description: Manufacturer; ComponentLink3URL: https://product.tdk.com/en/search/capacitor/ceramic/mlcc/info?part_no=CGA3E2X7R1H103K080AA; Status: Not Checked; Voltage: 50V; Dielectric: X7R; ComponentLink4Description: Charts; ComponentLink4URL: https://product.tdk.com/en/system/files?file=dam/doc/product/capacitor/ceramic/mlcc/charasheet/cga3e2x7r1h103k080aa.pdf; DB Parameter 1: 10nF; DB Parameter 2: 50V; DB Parameter 3: X7R
footprint C0603L 0.8 MM MS (Chip Capacitor, Body 1.6x0.8mm, IPC High Density)
pins: 1, 2

## Cap Cer 10pF 50V COG_NP0 0603 MS
designator C?, comment DB Parameter 1: 10pF  (hidden comment: Ceramic Capacitor)
Ceramic Capacitor 10pF 50V COG_NP0 0603; Manufacturer: AVX Corporation; Manufacturer Part Number: 06031A100KAT2A; Voltage: 100V; Tolerance: ±10%; Dielectric: COG/NP0; Production Status: Active; Distributor: Digi-Key; Distributor Part Number: 478-3670-1-ND; Last Revision Date: 11.07.2021; Temperature Range: -55°C ~ +125°C; Mounting: SMD; ComponentLink1Description: Datasheet; ComponentLink1URL: https://spicat.avx.com/product/Mlcc/chartview/06031A100KAT2A/dist/mouser; ComponentLink2Description: Distributor; ComponentLink2URL: https://www.digikey.com/en/products/detail/avx-corporation/06031A100KAT2A/1116196; ComponentLink3Description: Manufacturer; ComponentLink3URL: https://spicat.avx.com/product/Mlcc/chartview/06031A100KAT2A/dist/mouser; Status: Not Checked; ComponentLink4Description: Charts; ComponentLink4URL: https://spicat.avx.com/product/Mlcc/chartview/06031A100KAT2A/dist/mouser; Capacitance: 10pF; DB Parameter 2: 100V; DB Parameter 3: COG/NP0
footprint C0603L 0.8 MM MS (Chip Capacitor, Body 1.6x0.8mm, IPC High Density)
pins: 1, 2

## Cap Cer 10uF 100V X7R 2220 MS
designator C?, comment Capacitance: 10uF  (hidden comment: Ceramic Capacitor)
Ceramic Capacitor 10uF 100V X7R 2220; Manufacturer: AVX Corporation; Manufacturer Part Number: 22201C106MAT2A; Tolerance: ±20%; Production status: Active; Distributor: Digi-Key; Distributor Part Number: 478-9622-1-ND; Last Revision Date: 09.03.2021; Temperature Range: -55°C ~ +125°C; Mounting: SMD; ComponentLink1Description: Datasheet; ComponentLink1URL: https://datasheets.avx.com/X7RDielectric.pdf; ComponentLink2Description: Distributor; ComponentLink2URL: https://www.digikey.com/en/products/detail/avx-corporation/22201C106MAT2A/5431507?s=N4IgTCBcDa5mAGAjAYSQgbAWQIIBUwcQBdAXyA; ComponentLink3Description: Manufacturer; ComponentLink3URL: https://spicat.avx.com/product/mlcc/chartview/22201C106MAT2A; Status: Not Checked; Voltage: 100V; Dielectric: X7R; ComponentLink4Description: Specsheet; ComponentLink4URL: https://spicat.avx.com/product/mlcc/chartview/22201C106MAT2A; DB Parameter 1: 10uF; DB Parameter 2: 100V; DB Parameter 3: X7R
footprint 2220 C 2.8MM MS (2220 C LeadFrame DoubleStacked)
pins: 1, 2

## Cap Cer 10uF 100V X7S 2220 MS
designator C?, comment Capacitance: 10uF  (hidden comment: Ceramic Capacitor)
Ceramic Capacitor 10uF 100V X7S 2220; Manufacturer: TDK Corporation; Manufacturer Part Number: C5750X7S2A106K230KB; Tolerance: ±10%; Production status: Active; Distributor: Digi-Key; Distributor Part Number: 445-13408-1-ND; Last Revision Date: 23.07.2021; Temperature Range: -55°C ~ +125°C; Mounting: SMD; ComponentLink1Description: Datasheet; ComponentLink1URL: https://product.tdk.com/en/system/files?file=dam/doc/product/capacitor/ceramic/mlcc/catalog/mlcc_commercial_midvoltage_en.pdf; ComponentLink2Description: Distributor; ComponentLink2URL: https://www.digikey.com/en/products/detail/tdk-corporation/C5750X7S2A106K230KB/3950644; ComponentLink3Description: Manufacturer; ComponentLink3URL: https://product.tdk.com/en/search/capacitor/ceramic/mlcc/info?part_no=C5750X7S2A106K230KB; Status: Not Checked; Voltage: 100V; Dielectric: X7S; ComponentLink4Description: Specsheet; ComponentLink4URL: https://product.tdk.com/en/search/capacitor/ceramic/mlcc/info?part_no=C5750X7S2A106K230KB; DB Parameter 1: 10uF; DB Parameter 2: 100V; DB Parameter 3: X7S
footprint 2220 C 2.8MM MS (2220 C LeadFrame DoubleStacked)
pins: 1, 2

## Cap Cer 15uF 10V X5R 0603 MS
designator C?, comment DB Parameter 1: 15uF  (hidden comment: Ceramic Capacitor)
Ceramic Capacitor 15uF 10V X5R 0603; Manufacturer: TDK; Manufacturer Part Number: C1608X5R1A156M080AC; Tolerance: ±20%; Production Status: Active; Distributor: Mouser; Distributor Part Number: 810-C1608X5R1A156M; Last Revision Date: 17.10.2022; Temperature Range: -55°C ~ +85°C; Mounting: SMD; ComponentLink1Description: Datasheet; ComponentLink1URL: https://product.tdk.com/en/search/list#part_no=C1608X5R1A156M080AC&_l=20&_p=1&_c=part_no-part_no&_d=0; ComponentLink2Description: Distributor; ComponentLink2URL: https://eu.mouser.com/ProductDetail/TDK/C1608X5R1A156M080AC?qs=dfay7wIA1uF80UNp0oLDvA%3D%3D; ComponentLink3Description: Manufacturer; ComponentLink3URL: https://product.tdk.com/en/search/list#part_no=C1608X5R1A156M080AC&_l=20&_p=1&_c=part_no-part_no&_d=0; Status: Not Checked; Voltage: 10V; Dielectric: X5R; ComponentLink4Description: Charts; ComponentLink4URL: https://product.tdk.com/en/search/capacitor/ceramic/mlcc/info?part_no=C1608X5R1A156M080AC; Capacitance: 15uF; DB Parameter 2: 10V; DB Parameter 3: X5R
footprint C0603L 0.8 MM MS (Chip Capacitor, Body 1.6x0.8mm, IPC High Density)
pins: 1, 2

## Cap Cer 18pF 50V C0G_NP0 0603 MS
designator C?, comment Capacitance: 18pF  (hidden comment: Ceramic Capacitor)
Ceramic Capacitor 18pF 50V C0G_NP0 0603; Manufacturer: AVX Corporation; Manufacturer Part Number: 06035A180JAT2A; Tolerance: ±5%; Distributor: Digi-Key; Distributor Part Number: 478-1166-1-ND; Last Revision Date: 07.04.2021; Temperature Range: -55°C ~ +125°C; Mounting: SMD; ComponentLink1Description: Datasheet; ComponentLink1URL: https://spicat.avx.com/product/Mlcc/chartview/06035A180JAT2A/dist/mouser; ComponentLink2Description: Distributor; ComponentLink2URL: https://www.digikey.com/en/products/detail/avx-corporation/06035A180JAT2A/563276; ComponentLink3Description: Manufacturer; ComponentLink3URL: https://spicat.avx.com/product/Mlcc/chartview/06035A180JAT2A/dist/mouser; Status: Not Checked; Voltage: 50V; Dielectric: C0G_NP0; ComponentLink4Description: Charts; ComponentLink4URL: https://spicat.avx.com/product/Mlcc/chartview/06035A180JAT2A/dist/mouser; DB Parameter 1: 18pF; DB Parameter 2: 50V; DB Parameter 3: C0G_NP0
footprint C0603L 0.8 MM MS (Chip Capacitor, Body 1.6x0.8mm, IPC High Density)
pins: 1, 2

## Cap Cer 22nF 50V X7R 0603 MS
designator C?, comment Capacitance: 22nF  (hidden comment: Ceramic Capacitor)
Ceramic Capacitor 22nF 50V X7R 0603; Manufacturer: TDK Corporation; Manufacturer Part Number: C1608X7R1H223K080AA; Tolerance: ±10%; Distributor: Digi-Key; Distributor Part Number: 445-1312-1-ND; Last Revision Date: 11.08.2021; Temperature Range: -55°C ~ +125°C; Mounting: SMD; ComponentLink1Description: Datasheet; ComponentLink1URL: https://product.tdk.com/en/search/capacitor/ceramic/mlcc/info?part_no=C1608X7R1H223K080AA; ComponentLink2Description: Distributor; ComponentLink2URL: https://www.digikey.com/en/products/detail/tdk-corporation/C1608X7R1H223K080AA/513817; ComponentLink3Description: Manufacturer; ComponentLink3URL: https://product.tdk.com/en/search/capacitor/ceramic/mlcc/info?part_no=C1608X7R1H223K080AA; Status: Not Checked; Voltage: 50V; Dielectric: X7R; ComponentLink4Description: Charts; ComponentLink4URL: https://product.tdk.com/en/search/capacitor/ceramic/mlcc/info?part_no=C1608X7R1H223K080AA; DB Parameter 1: 22nF; DB Parameter 2: 50V; DB Parameter 3: X7R
footprint C0603L 0.8 MM MS (Chip Capacitor, Body 1.6x0.8mm, IPC High Density)
pins: 1, 2

## Cap Cer 22pF 50V C0G_NP0 0603 MS
designator C?, comment Capacitance: 22pF  (hidden comment: Ceramic Capacitor)
Ceramic Capacitor 22pF 50V C0G_NP0 0603; Manufacturer: AVX Corporation; Manufacturer Part Number: 06035A220JAT2A; Tolerance: ±5%; Dielectric: C0G, NP0; Production Status: Active; Distributor: Digi-Key; Distributor Part Number: 478-1167-1-ND; Last Revision Date: 13.07.2021; Temperature Range: -55°C ~ +125°C; Mounting: SMD; ComponentLink1Description: Datasheet; ComponentLink1URL: https://datasheets.avx.com/C0GNP0-Dielectric.pdf; ComponentLink2Description: Distributor; ComponentLink2URL: https://www.digikey.com/en/products/detail/avx-corporation/06035A220JAT2A/563277; ComponentLink3Description: Manufacturer; ComponentLink3URL: https://spicat.avx.com/product/mlcc/chartview/06035A220JAT2A/dist/mouser; Status: Not Checked; Voltage: 50V; ComponentLink4Description: Charts; ComponentLink4URL: https://spicat.avx.com/product/mlcc/chartview/06035A220JAT2A/dist/mouser; DB Parameter 1: 22pF; DB Parameter 2: 50V; DB Parameter 3: C0G, NP0
footprint C0603L 0.8 MM MS (Chip Capacitor, Body 1.6x0.8mm, IPC High Density)
pins: 1, 2

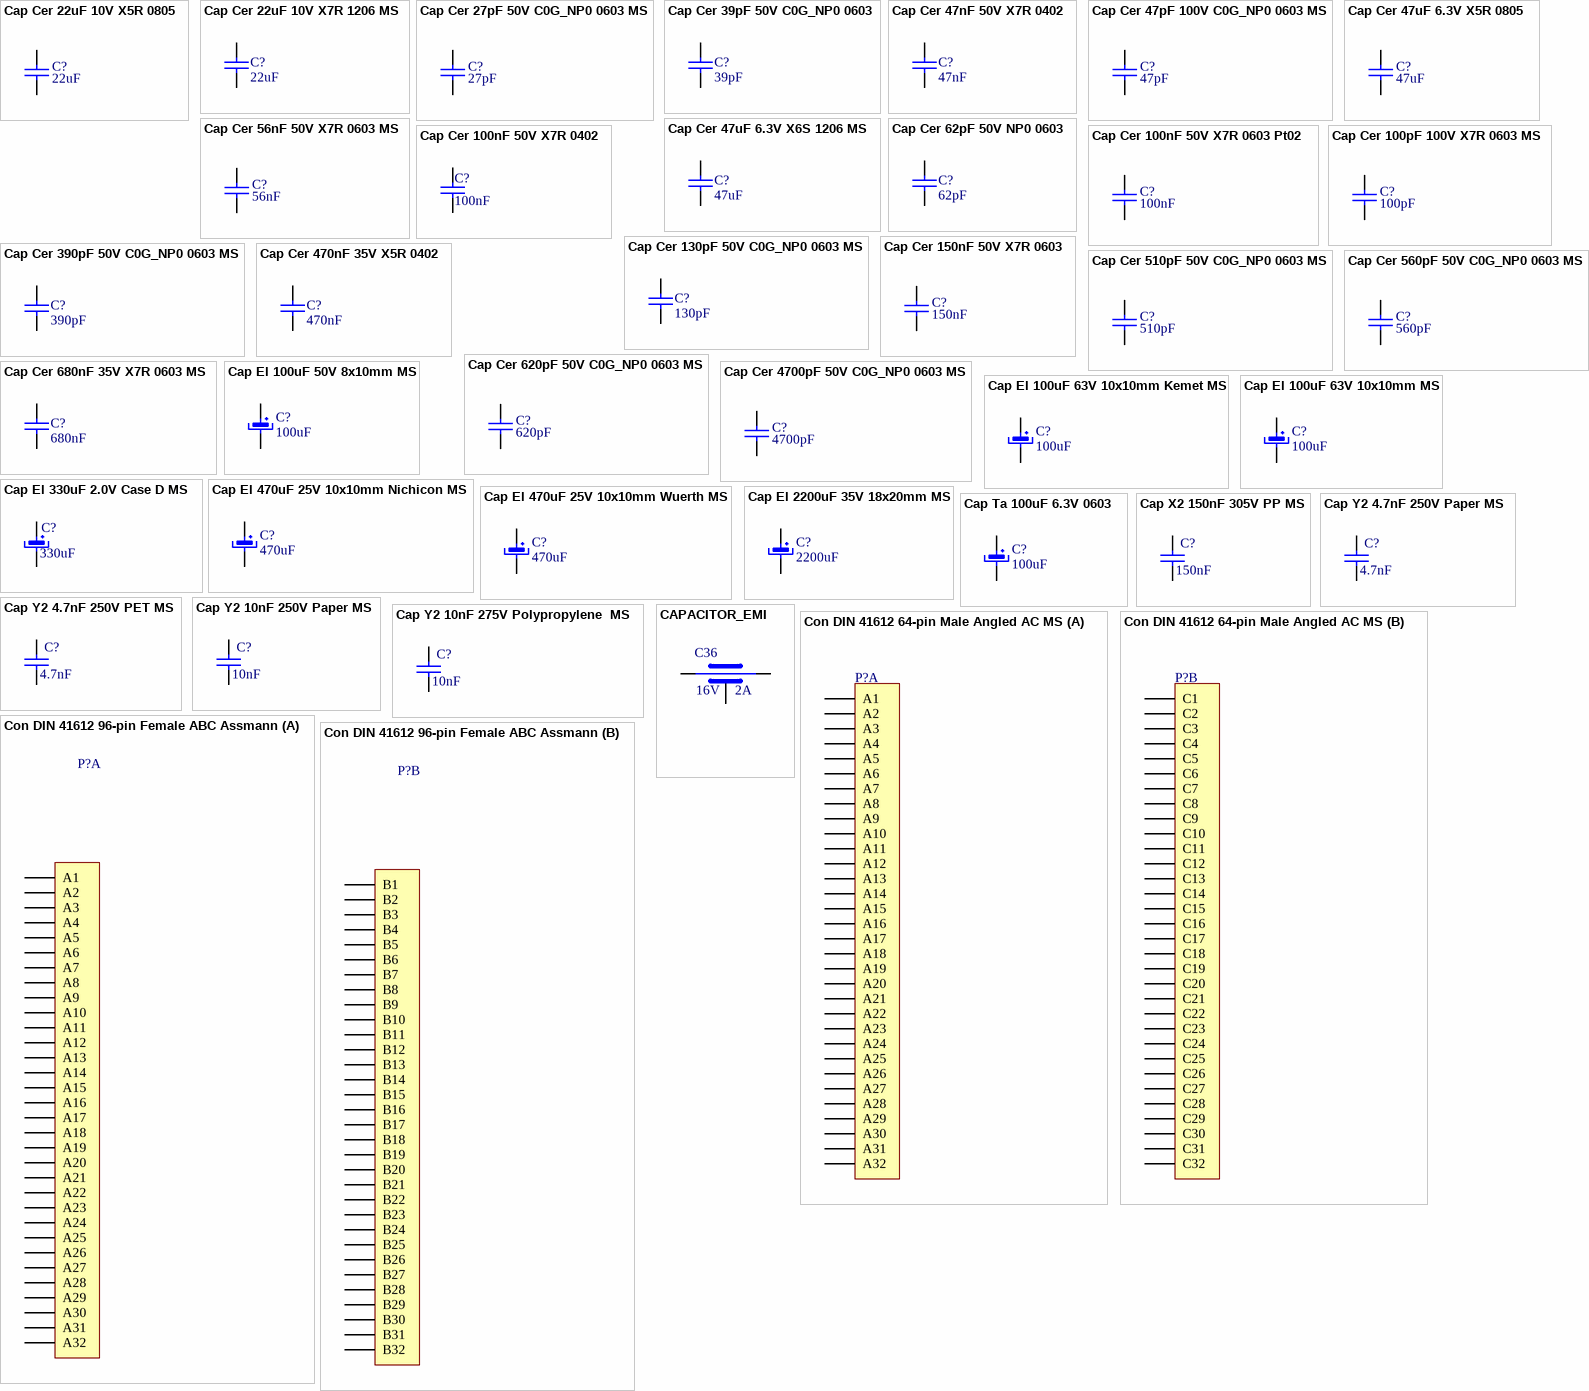
[diagram p1: symbols Cap Cer 22uF 10V X5R 0805 to Con DIN 41612 96-pin Female ABC Assmann]

## Cap Cer 22uF 10V X5R 0805
designator C?, comment Capacitance: 22uF  (hidden comment: Ceramic Capacitor)
Ceramic Capacitor 22uF 10V X5R 0805; Manufacturer: Murata Electronics; Manufacturer Part Number: GRM21BR61A226ME51L; Tolerance: ±20%; Production Status: Active; Distributor: Mouser; Distributor Part Number: 490-10511-1-ND; Last Revision Date: 19.10.2020.; Temperature Range: -55°C ~ +85°C; Mounting: SMD; ComponentLink1Description: Datasheet; ComponentLink1URL: https://search.murata.co.jp/Ceramy/image/img/A01X/G101/ENG/GRM21BR61A226ME51-01.pdf; ComponentLink2Description: Distributor; ComponentLink2URL: https://www.digikey.com/en/products/detail/murata-electronics/GRM21BR61A226ME51L/5027595; ComponentLink3Description: Manufacturer; ComponentLink3URL: https://www.murata.com/en-global/products/productdetail?partno=GRM21BR61A226ME51%23; Status: Not Checked; Voltage: 10V; Dielectric: X5R; DB Parameter 1: 22uF; DB Parameter 2: 10V; DB Parameter 3: X5R; ComponentLink4Description: Charts; ComponentLink4URL: https://www.murata.com/en-global/products/productdetail?partno=GRM21BR61A226ME51%23
footprint 0805 C 1.27mm MS (Capacitor 0805 1.27mm)
pins: 1, 2

## Cap Cer 22uF 10V X7R 1206 MS
designator C?, comment DB Parameter 1: 22uF  (hidden comment: Ceramic Capacitor)
Ceramic Capacitor 22UF 10V X7R 1206; Manufacturer: Samsung Electro-Mechanics; Manufacturer Part Number: CL31B226MPHNNNE; Tolerance: ±20%; Production Status: Active; Distributor: Digi-Key; Distributor Part Number: 1276-3148-1-ND; Last Revision Date: 07.04.2021; Temperature Range: -55°C ~ +125°C; Mounting: SMD; ComponentLink1Description: Datasheet; ComponentLink1URL: http://weblib.samsungsem.com/mlcc/mlcc-ec-data-sheet.do?partNumber=CL31B226MPHNNN; ComponentLink2Description: Distributor; ComponentLink2URL: https://www.digikey.com/en/products/detail/samsung-electro-mechanics/CL31B226MPHNNNE/3888806; ComponentLink3Description: Manufacturer; ComponentLink3URL: http://product.samsungsem.com/mlcc/basic-search.do?partNumber=CL31B226MPHNNN; Status: Not Checked; Voltage: 10V; Dielectric: X7R; ComponentLink4Description: Charts; ComponentLink4URL: http://weblib.samsungsem.com/mlcc/mlcc-ec-data-sheet.do?partNumber=CL31B226MPHNNN; Capacitance: 22uF; DB Parameter 2: 10V; DB Parameter 3: X7R
footprint 1206 C 1.80mm MS (Ceramic Capacitor 1206 1.80mm)
pins: 1, 2

## Cap Cer 27pF 50V C0G_NP0 0603 MS
designator C?, comment Capacitance: 27pF  (hidden comment: Ceramic Capacitor)
Ceramic Capacitor 27pF 50V C0G_NP0 0603; Manufacturer: Yageo; Manufacturer Part Number: CC0603JRNPO9BN270; Tolerance: ±5%; Dielectric: C0G, NP0; Production Status: Active; Distributor: Digi-Key; Distributor Part Number: 311-1063-1-ND; Last Revision Date: 07.06.2021; Temperature Range: -55°C ~ +125°C; Mounting: SMD; ComponentLink1Description: Datasheet; ComponentLink1URL: https://www.yageo.com/upload/media/product/productsearch/datasheet/mlcc/UPY-GP_NP0_16V-to-50V_18.pdf; ComponentLink2Description: Distributor; ComponentLink2URL: https://www.digikey.com/en/products/detail/yageo/CC0603JRNPO9BN270/302797; ComponentLink3Description: Manufacturer; ComponentLink3URL: https://www.yageo.com/en/ProductSearch/PartNumberSearch?part_number=CC0603JRNPO9BN270; Status: Not Checked; Voltage: 50V; ComponentLink4Description: Charts; ComponentLink4URL: https://www.yageo.com/en/Chart/Index/CC0603JRNPO9BN270#chart_cap_freq; DB Parameter 1: 27pF; DB Parameter 2: 50V; DB Parameter 3: C0G, NP0
footprint C0603L 0.8 MM MS (Chip Capacitor, Body 1.6x0.8mm, IPC High Density)
pins: 1, 2

## Cap Cer 39pF 50V C0G_NP0 0603
designator C?, comment DB Parameter 1: 39pF  (hidden comment: Ceramic Capacitor)
Ceramic Capacitor 39pF 50V C0G_NP0 0603; Manufacturer: Yageo; Manufacturer Part Number: CC0603JRNPO9BN390; Tolerance: ±5%; Production Status: Active; Distributor: Mouser; Distributor Part Number: 603-CC603JRNPO9BN390; Last Revision Date: 02.12.2021; Temperature Range: -55°C ~ +125°C; Mounting: SMD; ComponentLink1Description: Datasheet; ComponentLink1URL: https://www.yageo.com/upload/media/product/productsearch/datasheet/mlcc/UPY-GP_NP0_16V-to-50V_18.pdf; ComponentLink2Description: Distributor; ComponentLink2URL: https://eu.mouser.com/ProductDetail/YAGEO/CC0603JRNPO9BN390?qs=T%2F3nPWKqOSYu51Zx7Vtd2Q%3D%3D; ComponentLink3Description: Manufacturer; ComponentLink3URL: https://www.yageo.com/en/ProductSearch/PartNumberSearch?part_number=CC0603JRNPO9BN390; Status: Not Checked; Voltage: 50V; Dielectric: C0G_NP0; ComponentLink4Description: Charts; ComponentLink4URL: https://www.yageo.com/en/Chart/Index/CC0603JRNPO9BN390; Capacitance: 39pF; DB Parameter 2: 50V; DB Parameter 3: C0G_NP0
footprint C0603L 0.8 MM MS (Chip Capacitor, Body 1.6x0.8mm, IPC High Density)
pins: 1, 2